# Altium schematic symbol library MurataNrf52.SchLib: 1 symbol
Pins are listed as number, name and electrical type; pins without a type are passive.

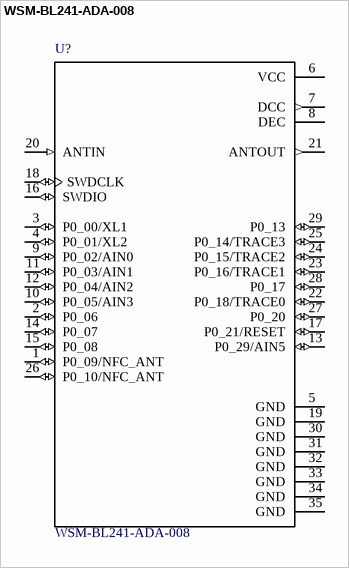
[diagram p0: symbol WSM-BL241-ADA-008]

## WSM-BL241-ADA-008
designator U?
Bluetooth Low Energy/NFC module 1Mbps LGA; MF: Murata Electronics; Price: None; SnapEDA_Link: https://www.snapeda.com/parts/WSM-BL241-ADA-008/Murata%20Electronics%20North%20America/view-part/?ref=snap; Availability: Unavailable; Package: Module Murata; MP: WSM-BL241-ADA-008; Value: *
footprint *MODULE_WSM-BL241-ADA-008
pins: 1 P0_09/NFC_ANT (io), 2 P0_06 (io), 3 P0_00/XL1 (io), 4 P0_01/XL2 (io), 5 GND (power), 6 VCC (power), 7 DCC (out), 8 DEC, 9 P0_02/AIN0 (io), 10 P0_05/AIN3 (io), 11 P0_03/AIN1 (io), 12 P0_04/AIN2 (io), 13 P0_29/AIN5 (io), 14 P0_07 (io), 15 P0_08 (io), 16 SWDIO (io), 17 P0_21/RESET (io), 18 SWDCLK (io), 19 GND (power), 20 ANTIN (in), 21 ANTOUT (out), 22 P0_18/TRACE0 (io), 23 P0_16/TRACE1 (io), 24 P0_15/TRACE2 (io), 25 P0_14/TRACE3 (io), 26 P0_10/NFC_ANT (io), 27 P0_20 (io), 28 P0_17 (io), 29 P0_13 (io), 30 GND (power), 31 GND (power), 32 GND (power), 33 GND (power), 34 GND (power), 35 GND (power)